# Altium schematic symbol library Relay-PVDZ172N.SchLib: 1 symbol
Pins are listed as number, name and electrical type; pins without a type are passive.

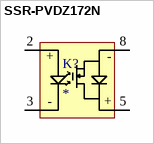
[diagram p0: symbol SSR-PVDZ172N]

## SSR-PVDZ172N
designator K?
Relay SSR SPST 1.5A 0~60 V; Digi-Key Part Number: PVAZ172NSPBF-ND
footprint PVDZ172N (SSR SPST 1.5A 0~60 V)
pins: 2, 3, 5, 8
text: +; -